# EAGLE library part DRV8244SQRYJRQ1 (library shrew-core)
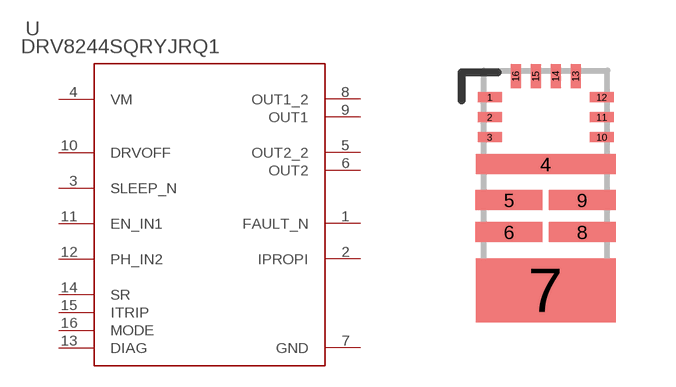
[diagram p2: symbol with the pads of RYJ0016A-MFG; footprint RYJ0016A-MFG]

Designator prefix U

## DRV8244SQRYJRQ1 (COPYRIGHT: Copyright (C) 2024 Ultra Librarian. All rights reserved.; MANUFACTURER_PART_NUMBER: DRV8244SQRYJRQ1; MFR_NAME: Texas Instruments; REFDES: RefDes; TYPE: TYPE)  [RYJ0016A-MFG]
1  FAULT_N  oc
2  IPROPI  pas
3  SLEEP_N  in
4  VM  in
5  OUT2_2  out
6  OUT2  out
7  GND  in
8  OUT1_2  out
9  OUT1  out
10  DRVOFF  in
11  EN_IN1  in
12  PH_IN2  in
13  DIAG  pas
14  SR  pas
15  ITRIP  pas
16  MODE  pas

## Footprint RYJ0016A-MFG (pad centres in mm)
smd 0.6 x 0.25: 1 -1.4,2.375; 2 -1.4,1.875; 3 -1.4,1.375; 10 1.4,1.375; 11 1.4,1.875; 12 1.4,2.375
smd 3.5 x 0.5: 4 0,0.7
smd 1.675 x 0.5: 5 -0.913,-0.2; 6 -0.913,-1; 8 0.913,-1; 9 0.913,-0.2
smd 3.5 x 1.6: 7 0,-2.45
smd 0.25 x 0.6: 13 0.75,2.9; 14 0.25,2.9; 15 -0.25,2.9; 16 -0.75,2.9